# EAGLE library part PCF8523 (library bschulz)
PCF8523 - Battery Backed I2C Real Time Clock (RTC) Characteristics: VCC: 1.0~5.5V VBat: 1.8~5.5V IQ: 150nA @ 3.0V Vcc Interface: I2C Operating Temperature: -40°C to +85°C (+125°C for MCP7940NT) Digikey: PCF8523T/1,118 (SOIC) <https://www.digikey.com/en/products/detail/nxp-usa-inc/PCF8523T-1-118/2530422> PCF8523TK/1,118 (HVSON) <https://www.digikey.com/en/products/detail/nxp-usa-inc/PCF8523TK-1-118/2606089>
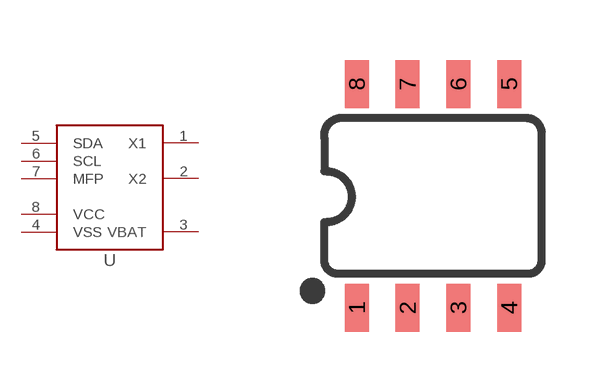
[diagram p189: symbol with the pads of SO08; footprint SO08]

Designator prefix U

## PCF8523SOIC (DIGIKEY: 568-5306-1-ND; DISP: PCF8523; MF: NXP; MPN: PCF8523T/1,118)  [SO08]
1  X1  pas
2  X2  pas
3  VBAT  pwr
4  VSS  pwr
5  SDA
6  SCL  in
7  MFP
8  VCC  pwr

## Footprint SO08 (pad centres in mm)
SOIC, 0.15 inch width
smd 0.6 x 1.2: 1 -1.905,-2.8; 2 -0.635,-2.8; 3 0.635,-2.8; 4 1.905,-2.8; 5 1.905,2.8; 6 0.635,2.8; 7 -0.635,2.8; 8 -1.905,2.8